# Altium schematic symbol library Schlib1.SchLib: 1 symbol
Pins are listed as number, name and electrical type; pins without a type are passive.

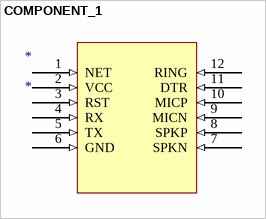
[diagram p0: symbol COMPONENT_1]

## COMPONENT_1
designator *
pins: 1 NET (in), 2 VCC (in), 3 RST (in), 4 RX (in), 5 TX (in), 6 GND (in), 7 SPKN (in), 8 SPKP (in), 9 MICN (in), 10 MICP (in), 11 DTR (in), 12 RING (in)